# Altium footprint library TLP250.PcbLib: 1 footprints
Each footprint in its own frame and in the unit in brackets; x right, y up, seen from the top. Pads: shape width x height; smd on the part's side, far side on the other; paste and mask are expansions set on the pad; w line width, h text height; cw(c..) or ccw(c..) is an arc to the next point about the centre after c.
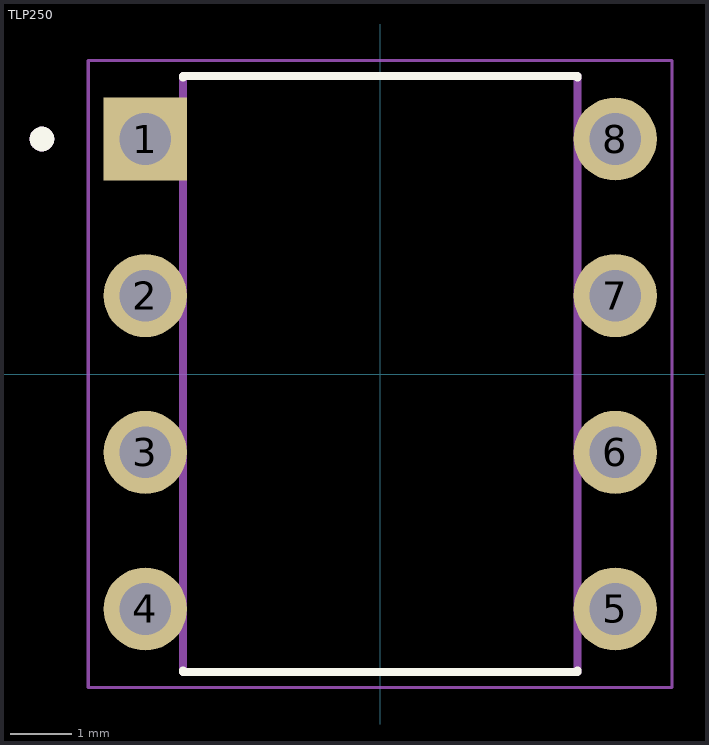
[diagram p0: the footprint, top view; thin cyan lines are the x and y axes]

## TLP250 [mm]
height 4.85
pads (8):
  rect 1.348x1.348 / inner round 1.348 / far side rect 1.348x1.348 hole 0.84: 1(-3.81,3.81)
  round 1.348 hole 0.84: 2(-3.81,1.27) 3(-3.81,-1.27) 4(-3.81,-3.81) 5(3.81,-3.81) 6(3.81,-1.27) 7(3.81,1.27) 8(3.81,3.81)
Top Overlay:
  circle w0.2: c-5.484,3.81 r0.1
  lines w0.127: -3.2,-4.804 -3.2,-4.83 3.2,-4.83 3.2,-4.804 ; -3.2,4.804 -3.2,4.83 3.2,4.83 3.2,4.804 ; -3.175,-4.83 3.175,-4.83 ; -3.175,4.83 3.175,4.83
Mechanical 13:
  circle w0.2: c-5.484,3.81 r0.1
  lines w0.127: -3.2,-4.83 -3.2,4.83 3.2,4.83 3.2,-4.83 -3.2,-4.83
Mechanical 15:
  lines w0.05: -4.734,-5.08 4.734,-5.08 4.734,5.08 -4.734,5.08 -4.734,-5.08
3D body "step_temp.STEP": height 4.85, standoff -2.51, extent -3.935,-4.83 3.935,4.83